# Altium footprint library PCB - SPRING PROBE - Mill-Max 0985-0-15-20-71-14-11-0.PCBLIB: 1 footprints
Each footprint in its own frame and in the unit in brackets; x right, y up, seen from the top. Pads: shape width x height; smd on the part's side, far side on the other; paste and mask are expansions set on the pad; w line width, h text height; cw(c..) or ccw(c..) is an arc to the next point about the centre after c.
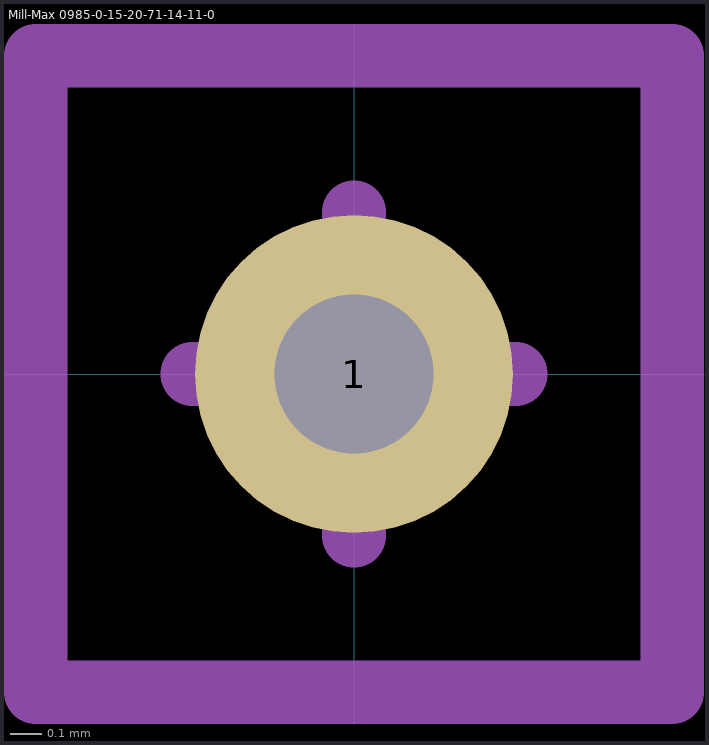
[diagram p0: the footprint, top view; thin cyan lines are the x and y axes]

## Mill-Max 0985-0-15-20-71-14-11-0 [mm]
height 6.516
pads (1):
  round 1 hole 0.5: 1(0,0)
Mechanical 15:
  lines w0.2: -0.508,0 0.508,0 ; 0,-0.508 0,0.508 ; -1,-1 -1,1 1,1 1,-1 -1,-1
3D body "mill-max-0985-0-15-20-71-14-11-0.step": height 6.27, standoff -2.62, extent -0.542,-0.546 0.542,0.546